# Altium footprint library Relay-AQH3223A.PcbLib: 1 footprints
Each footprint in its own frame and in the unit in brackets; x right, y up, seen from the top. Pads: shape width x height; smd on the part's side, far side on the other; paste and mask are expansions set on the pad; w line width, h text height; cw(c..) or ccw(c..) is an arc to the next point about the centre after c.
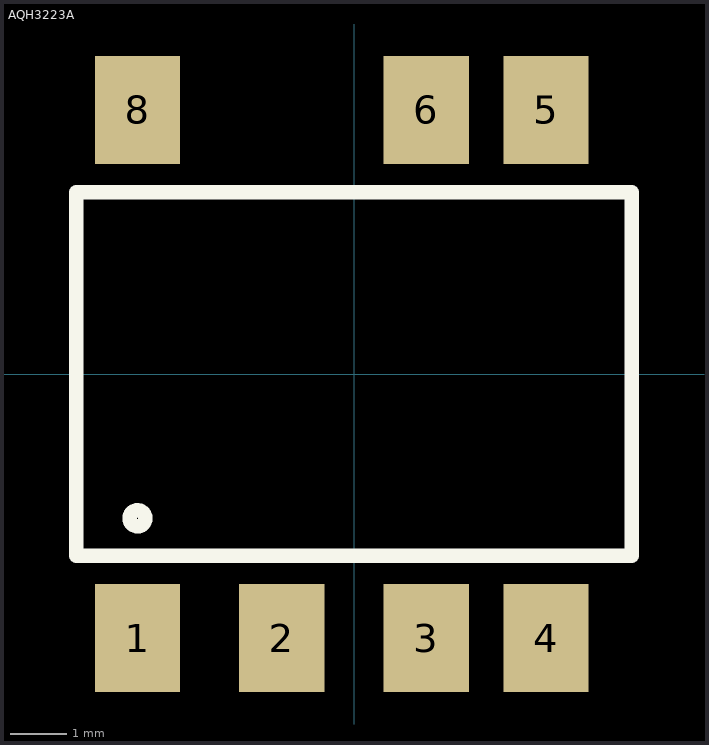
[diagram p0: the footprint, top view; thin cyan lines are the x and y axes]

## AQH3223A [mm] "SSR SPST, 1.2A 0~600V"
pads (7):
  rect 1.5x1.9 smd: 1(-3.81,-4.65) 2(-1.27,-4.65) 3(1.27,-4.65) 5(3.381,4.65) 6(1.27,4.65) 8(-3.81,4.65)
  rect 1.5x1.9 smd mask+0.102: 4(3.381,-4.65)
Top Overlay:
  circle w0.254: c-3.81,-2.54 r0.14
  lines w0.254: -4.89,-3.2 -4.89,3.2 4.89,3.2 4.89,-3.2 -4.89,-3.2